# Altium footprint library PCB - LEADED - SOP - 3PEAK SOP14 SO2 SOP-14-A.PcbLib: 1 footprints
Each footprint in its own frame and in the unit in brackets; x right, y up, seen from the top. Pads: shape width x height; smd on the part's side, far side on the other; paste and mask are expansions set on the pad; w line width, h text height; cw(c..) or ccw(c..) is an arc to the next point about the centre after c.
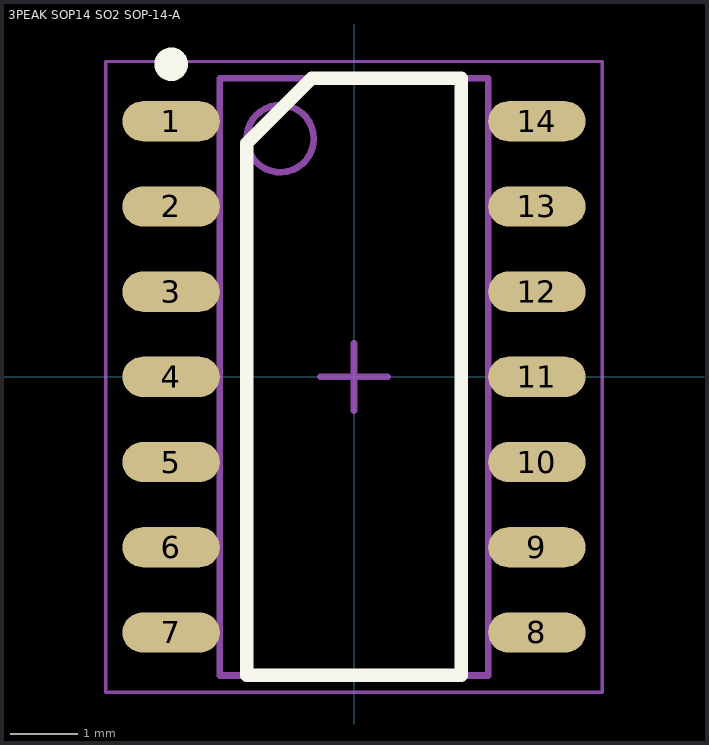
[diagram p0: the footprint, top view; thin cyan lines are the x and y axes]

## 3PEAK SOP14 SO2 SOP-14-A [mm] "SOP, 14-Leads, Body 8.65x3.90mm, Pitch 1.27mm"
height 1.75
pads (14):
  oval 1.45x0.6 smd: 1(-2.725,3.81) 2(-2.725,2.54) 3(-2.725,1.27) 4(-2.725,0) 5(-2.725,-1.27) 6(-2.725,-2.54) 7(-2.725,-3.81) 8(2.725,-3.81) 9(2.725,-2.54) 10(2.725,-1.27) 11(2.725,0) 12(2.725,1.27) 13(2.725,2.54) 14(2.725,3.81)
Top Overlay:
  circle w0.25: c-2.725,4.66 r0.125
  lines w0.2: -1.6,-4.45 -1.6,3.48 -0.63,4.45 1.6,4.45 1.6,-4.45 -1.6,-4.45
Mechanical 13:
  circle w0.1: c-1.1,3.55 r0.5
  lines w0.1: -2,-4.45 -2,4.45 2,4.45 2,-4.45 -2,-4.45
Mechanical 15:
  lines w0.05: -3.7,-4.7 -3.7,4.7 3.7,4.7 3.7,-4.7 -3.7,-4.7
  lines w0.1: -0.5,0 0.5,0 ; 0,-0.5 0,0.5
3D body "3PEAK SOP14 SO2 SOP-14-A.step": height 1.75, standoff 0, extent -3,-4.45 3,4.45